# EAGLE library part GH1.25-14P (library JST-GH1.25)
JST GH 1.25mm PITCH SMD HEADER
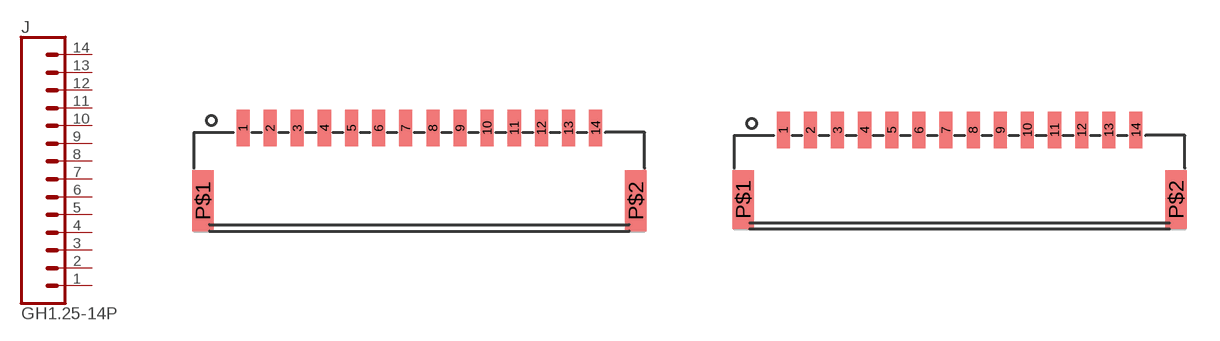
[diagram p8: symbol with the pads of BM14B-GHS-TBT; footprints BM14B-GHS-TBT, SM14B-GHS-TB]

Designator prefix J

## GH1.25-14P-BM14B-GHS-TBT  [BM14B-GHS-TBT]
1  1  pas
2  2  pas
3  3  pas
4  4  pas
5  5  pas
6  6  pas
7  7  pas
8  8  pas
9  9  pas
10  10  pas
11  11  pas
12  12  pas
13  13  pas
14  14  pas

## GH1.25-14P-SM14B-GHS-TB  [SM14B-GHS-TB]
Pads as for BM14B-GHS-TBT

## Footprint BM14B-GHS-TBT (pad centres in mm)
TOP ENTRY JST GH 1.25mm SMD HEADER
smd 0.6 x 1.7: 1 -8.125,4.75; 2 -6.875,4.75; 3 -5.625,4.75; 4 -4.375,4.75; 5 -3.125,4.75; 6 -1.875,4.75; 7 -0.625,4.75; 8 0.625,4.75; 9 1.875,4.75; 10 3.125,4.75; 11 4.375,4.75; 12 5.625,4.75; 13 6.875,4.75; 14 8.125,4.75
smd 1 x 2.8: P$1 -9.975,1.4; P$2 9.975,1.4

## Footprint SM14B-GHS-TB (pad centres in mm)
SIDE ENTRY JST GH 1.25mm SMD HEADER
smd 0.6 x 1.7: 1 -8.125,4.55; 2 -6.875,4.55; 3 -5.625,4.55; 4 -4.375,4.55; 5 -3.125,4.55; 6 -1.875,4.55; 7 -0.625,4.55; 8 0.625,4.55; 9 1.875,4.55; 10 3.125,4.55; 11 4.375,4.55; 12 5.625,4.55; 13 6.875,4.55; 14 8.125,4.55
smd 1 x 2.7: P$1 -9.975,1.35; P$2 9.975,1.35